# Altium footprint library my_lib.PcbLib: 68 footprints (part 3 of 5)
Each footprint in its own frame and in the unit in brackets; x right, y up, seen from the top. Pads: shape width x height; smd on the part's side, far side on the other; paste and mask are expansions set on the pad; w line width, h text height; cw(c..) or ccw(c..) is an arc to the next point about the centre after c.
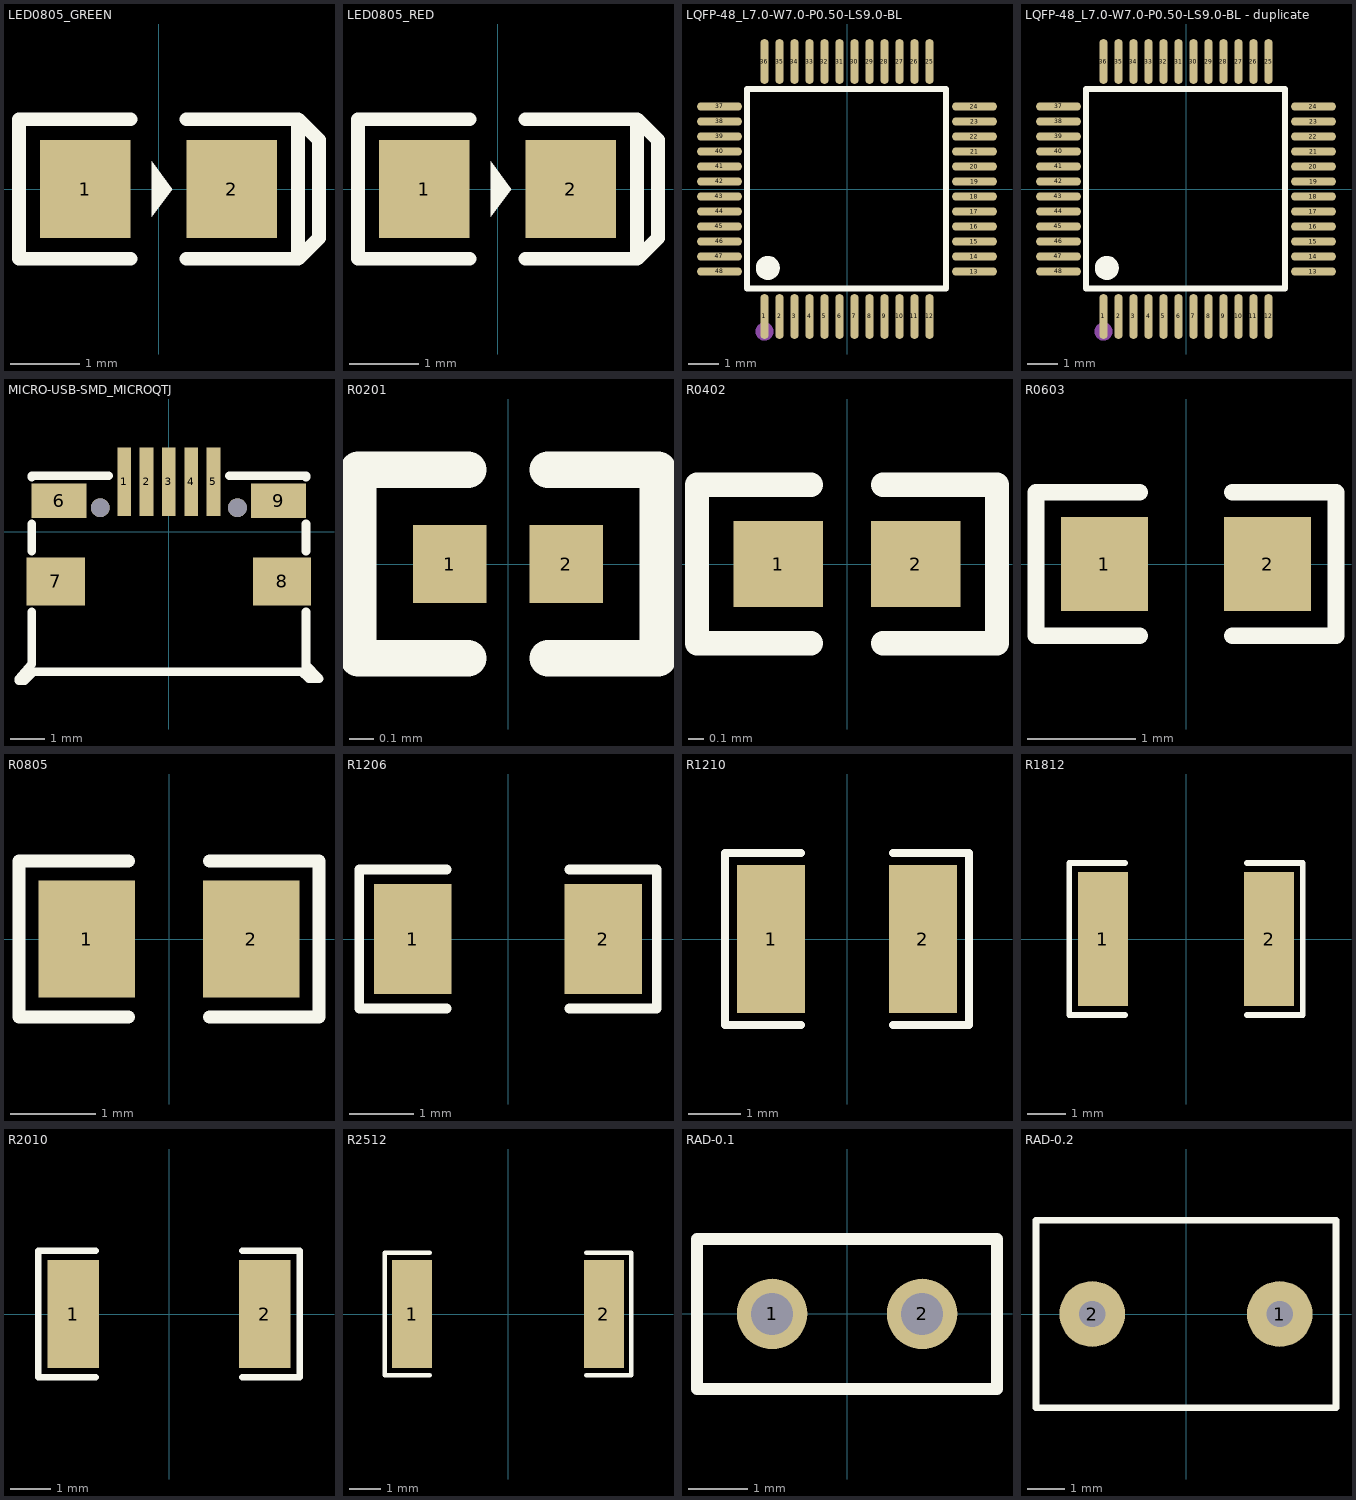
[diagram p2: the footprints below, top view; thin cyan lines are the x and y axes]

## LED0805_GREEN [mm]
pads (2):
  rect 1.3x1.4 smd: 1(-1.05,0) 2(1.05,0)
Top Overlay:
  region: -0.1,0.4 -0.1,-0.4 0.2,0
  lines w0.2: -0.4,-1 -2,-1 -2,1 -0.4,1 ; 0.4,-1 2,-1 ; 0.4,1 2,1 ; 2,-1 2.3,-0.7 2.3,0.7 2,1 ; 2,-1 2,1

## LED0805_RED [mm]
pads (2):
  rect 1.3x1.4 smd: 1(-1.05,0) 2(1.05,0)
Top Overlay:
  region: -0.1,0.4 -0.1,-0.4 0.2,0
  lines w0.2: -0.4,-1 -2,-1 -2,1 -0.4,1 ; 0.4,-1 2,-1 ; 0.4,1 2,1 ; 2,-1 2,1 ; 2,-1 2.3,-0.7 2.3,0.7 2,1

## LQFP-48_L7.0-W7.0-P0.50-LS9.0-BL [mm]
pads (48):
  oval 0.27x1.5 smd: 1(-2.75,-4.25) 2(-2.25,-4.25) 3(-1.75,-4.25) 4(-1.25,-4.25) 5(-0.75,-4.25) 6(-0.25,-4.25) 7(0.25,-4.25) 8(0.75,-4.25) 9(1.25,-4.25) 10(1.75,-4.25) 11(2.25,-4.25) 12(2.75,-4.25) 25(2.75,4.25) 26(2.25,4.25) 27(1.75,4.25) 28(1.25,4.25) 29(0.75,4.25) 30(0.25,4.25) 31(-0.25,4.25) 32(-0.75,4.25) 33(-1.25,4.25) 34(-1.75,4.25) 35(-2.25,4.25) 36(-2.75,4.25)
  oval 1.5x0.27 smd: 13(4.25,-2.75) 14(4.25,-2.25) 15(4.25,-1.75) 16(4.25,-1.25) 17(4.25,-0.75) 18(4.25,-0.25) 19(4.25,0.25) 20(4.25,0.75) 21(4.25,1.25) 22(4.25,1.75) 23(4.25,2.25) 24(4.25,2.75) 37(-4.25,2.75) 38(-4.25,2.25) 39(-4.25,1.75) 40(-4.25,1.25) 41(-4.25,0.75) 42(-4.25,0.25) 43(-4.25,-0.25) 44(-4.25,-0.75) 45(-4.25,-1.25) 46(-4.25,-1.75) 47(-4.25,-2.25) 48(-4.25,-2.75)
Top Overlay:
  lines w0.2: -2.896,3.34 3.302,3.34 3.302,-3.315 -3.327,-3.315 -3.327,3.34 -2.565,3.34
  lines w0.4: -2.641,-2.43 ccw(c-2.64,-2.63) -2.639,-2.43
Mechanical 15:
  circle w0.3: c-2.75,-4.75 r0.15

## LQFP-48_L7.0-W7.0-P0.50-LS9.0-BL - duplicate [mm]
pads (48):
  oval 0.27x1.5 smd: 1(-2.75,-4.25) 2(-2.25,-4.25) 3(-1.75,-4.25) 4(-1.25,-4.25) 5(-0.75,-4.25) 6(-0.25,-4.25) 7(0.25,-4.25) 8(0.75,-4.25) 9(1.25,-4.25) 10(1.75,-4.25) 11(2.25,-4.25) 12(2.75,-4.25) 25(2.75,4.25) 26(2.25,4.25) 27(1.75,4.25) 28(1.25,4.25) 29(0.75,4.25) 30(0.25,4.25) 31(-0.25,4.25) 32(-0.75,4.25) 33(-1.25,4.25) 34(-1.75,4.25) 35(-2.25,4.25) 36(-2.75,4.25)
  oval 1.5x0.27 smd: 13(4.25,-2.75) 14(4.25,-2.25) 15(4.25,-1.75) 16(4.25,-1.25) 17(4.25,-0.75) 18(4.25,-0.25) 19(4.25,0.25) 20(4.25,0.75) 21(4.25,1.25) 22(4.25,1.75) 23(4.25,2.25) 24(4.25,2.75) 37(-4.25,2.75) 38(-4.25,2.25) 39(-4.25,1.75) 40(-4.25,1.25) 41(-4.25,0.75) 42(-4.25,0.25) 43(-4.25,-0.25) 44(-4.25,-0.75) 45(-4.25,-1.25) 46(-4.25,-1.75) 47(-4.25,-2.25) 48(-4.25,-2.75)
Top Overlay:
  lines w0.2: -2.896,3.34 3.302,3.34 3.302,-3.315 -3.327,-3.315 -3.327,3.34 -2.565,3.34
  lines w0.4: -2.641,-2.43 ccw(c-2.64,-2.63) -2.639,-2.43
Mechanical 15:
  circle w0.3: c-2.75,-4.75 r0.15

## MICRO-USB-SMD_MICROQTJ [mm]
pads (11):
  rect 0.4x2 smd: 1(-1.3,1.452) 2(-0.65,1.452) 3(0,1.452) 4(0.65,1.452) 5(1.3,1.452)
  rect 1.6x1 smd: 6(-3.2,0.902) 9(3.2,0.902)
  rect 1.7x1.4 smd: 7(-3.3,-1.452) 8(3.3,-1.452)
  round 0.55 hole 0.55 unplated: ""(-2,0.698) ""(2,0.698)
Top Overlay:
  lines w0.254: -4.011,-3.869 -4.369,-4.288 -4.369,-4.339 -4.204,-4.339 -3.946,-4.081 3.878,-4.081 4.084,-4.288 4.376,-4.288 3.99,-3.869 ; -4,-3.869 -4,-2.398 -4,-2.334 ; -4,-0.571 -4,0.22 ; -4,1.583 -4,1.633 -1.758,1.633 ; 1.758,1.633 4,1.633 4,1.583 ; 4,-3.991 4,-2.398 4,-2.334 ; 4,-0.571 4,0.22

## R0201 [mm]
pads (2):
  rect 0.303x0.324 smd: 1(-0.242,0) 2(0.242,0)
Top Overlay:
  lines w0.152: -0.166,-0.391 -0.622,-0.391 -0.622,0.391 -0.166,0.391 ; 0.166,-0.391 0.622,-0.391 0.622,0.391 0.166,0.391
Top Paste:
  region: -0.081,-0.138 -0.081,0.138 -0.105,0.162 -0.369,0.162 -0.393,0.138 -0.393,-0.138 -0.369,-0.162 -0.105,-0.162
  region: 0.081,-0.138 0.081,0.138 0.105,0.162 0.369,0.162 0.393,0.138 0.393,-0.138 0.369,-0.162 0.105,-0.162

## R0402 [mm]
pads (2):
  rect 0.566x0.54 smd: 1(-0.433,0) 2(0.433,0)
Top Overlay:
  lines w0.152: -0.226,-0.499 -0.944,-0.499 -0.944,0.499 -0.226,0.499 ; 0.226,-0.499 0.944,-0.499 0.944,0.499 0.226,0.499
Top Paste:
  region: 0.135,-0.23 0.135,0.23 0.175,0.27 0.676,0.27 0.716,0.23 0.716,-0.23 0.676,-0.27 0.175,-0.27
  region: -0.135,-0.23 -0.135,0.23 -0.175,0.27 -0.676,0.27 -0.716,0.23 -0.716,-0.23 -0.676,-0.27 -0.175,-0.27

## R0603 [mm]
pads (2):
  rect 0.806x0.864 smd: 1(-0.753,0) 2(0.753,0)
Top Overlay:
  lines w0.152: -0.426,-0.661 -1.385,-0.661 -1.385,0.661 -0.426,0.661 ; 0.426,-0.661 1.385,-0.661 1.385,0.661 0.426,0.661
Top Paste:
  region: 1.195,0.45 0.395,0.45 0.345,0.4 0.345,0.172 0.715,0.172 0.715,-0.158 0.345,-0.158 0.345,-0.4 0.395,-0.45 1.195,-0.45 1.245,-0.4 1.245,0.4
  region: -0.355,0.4 -0.355,0.172 -0.735,0.172 -0.735,-0.158 -0.355,-0.158 -0.355,-0.4 -0.405,-0.45 -1.195,-0.45 -1.245,-0.4 -1.245,0.4 -1.195,0.45 -0.405,0.45

## R0805 [mm]
pads (2):
  rect 1.133x1.377 smd: 1(-0.966,0) 2(0.966,0)
Top Overlay:
  lines w0.152: -0.476,-0.917 -1.761,-0.917 -1.761,0.917 -0.476,0.917 ; 0.476,-0.917 1.761,-0.917 1.761,0.917 0.476,0.917
Top Paste:
  region: 0.45,-0.64 0.45,-0.22 0.895,-0.22 0.895,0.23 0.455,0.23 0.45,0.64 0.5,0.69 1.65,0.69 1.7,0.64 1.7,-0.64 1.65,-0.69 0.5,-0.69
  region: -1.7,-0.64 -1.7,0.64 -1.65,0.69 -0.5,0.69 -0.45,0.64 -0.445,0.23 -0.895,0.23 -0.895,-0.22 -0.455,-0.22 -0.45,-0.64 -0.5,-0.69 -1.65,-0.69

## R1206 [mm]
pads (2):
  rect 1.208x1.701 smd: 1(-1.479,0) 2(1.479,0)
Top Overlay:
  lines w0.152: -0.951,-1.079 -2.311,-1.079 -2.311,1.079 -0.951,1.079 ; 0.951,-1.079 2.311,-1.079 2.311,1.079 0.951,1.079
Top Paste:
  region: 0.875,-0.75 0.875,-0.389 0.975,-0.289 1.186,-0.289 1.286,-0.189 1.286,0.189 1.186,0.289 0.975,0.289 0.875,0.389 0.875,0.75 0.975,0.85 1.983,0.85 2.083,0.75 2.083,-0.75 1.983,-0.85 0.975,-0.85
  region: -0.875,-0.75 -0.875,-0.389 -0.975,-0.289 -1.186,-0.289 -1.286,-0.189 -1.286,0.189 -1.186,0.289 -0.975,0.289 -0.875,0.389 -0.875,0.75 -0.975,0.85 -1.983,0.85 -2.083,0.75 -2.083,-0.75 -1.983,-0.85 -0.975,-0.85

## R1210 [mm]
pads (2):
  rect 1.283x2.808 smd: 1(-1.441,0) 2(1.441,0)
Top Overlay:
  lines w0.152: -0.876,-1.633 -2.311,-1.633 -2.311,1.633 -0.876,1.633 ; 0.876,-1.633 2.311,-1.633 2.311,1.633 0.876,1.633
Top Paste:
  region: 0.8,-1.304 0.8,-0.577 0.9,-0.477 1.136,-0.477 1.236,-0.377 1.236,0.377 1.136,0.477 0.9,0.477 0.8,0.577 0.8,1.304 0.9,1.404 1.983,1.404 2.083,1.304 2.083,-1.304 1.983,-1.404 0.9,-1.404
  region: -0.8,-1.304 -0.8,-0.577 -0.9,-0.477 -1.136,-0.477 -1.236,-0.377 -1.236,0.377 -1.136,0.477 -0.9,0.477 -0.8,0.577 -0.8,1.304 -0.9,1.404 -1.983,1.404 -2.083,1.304 -2.083,-1.304 -1.983,-1.404 -0.9,-1.404

## R1812 [mm]
pads (2):
  rect 1.283x3.456 smd: 1(-2.141,0) 2(2.141,0)
Top Overlay:
  lines w0.152: -1.576,-1.957 -3.011,-1.957 -3.011,1.957 -1.576,1.957 ; 1.576,-1.957 3.011,-1.957 3.011,1.957 1.576,1.957
Top Paste:
  region: 1.5,-1.628 1.5,-0.688 1.6,-0.588 1.836,-0.588 1.936,-0.488 1.936,0.488 1.836,0.588 1.6,0.588 1.5,0.688 1.5,1.628 1.6,1.728 2.683,1.728 2.783,1.628 2.783,-1.628 2.683,-1.728 1.6,-1.728
  region: -1.5,-1.628 -1.5,-0.688 -1.6,-0.588 -1.836,-0.588 -1.936,-0.488 -1.936,0.488 -1.836,0.588 -1.6,0.588 -1.5,0.688 -1.5,1.628 -1.6,1.728 -2.683,1.728 -2.783,1.628 -2.783,-1.628 -2.683,-1.728 -1.6,-1.728

## R2010 [mm]
pads (2):
  rect 1.283x2.7 smd: 1(-2.391,0) 2(2.391,0)
Top Overlay:
  lines w0.152: -1.826,-1.579 -3.261,-1.579 -3.261,1.579 -1.826,1.579 ; 1.826,-1.579 3.261,-1.579 3.261,1.579 1.826,1.579
Top Paste:
  region: 1.75,-1.25 1.75,-0.559 1.85,-0.459 2.086,-0.459 2.186,-0.359 2.186,0.359 2.086,0.459 1.85,0.459 1.75,0.559 1.75,1.25 1.85,1.35 2.933,1.35 3.033,1.25 3.033,-1.25 2.933,-1.35 1.85,-1.35
  region: -1.75,-1.25 -1.75,-0.559 -1.85,-0.459 -2.086,-0.459 -2.186,-0.359 -2.186,0.359 -2.086,0.459 -1.85,0.459 -1.75,0.559 -1.75,1.25 -1.85,1.35 -2.933,1.35 -3.033,1.25 -3.033,-1.25 -2.933,-1.35 -1.85,-1.35

## R2512 [mm]
pads (2):
  rect 1.283x3.456 smd: 1(-3.066,0) 2(3.066,0)
Top Overlay:
  lines w0.152: -2.501,-1.957 -3.936,-1.957 -3.936,1.957 -2.501,1.957 ; 2.501,-1.957 3.936,-1.957 3.936,1.957 2.501,1.957
Top Paste:
  region: -2.425,-1.628 -2.425,-0.688 -2.525,-0.588 -2.761,-0.588 -2.861,-0.488 -2.861,0.488 -2.761,0.588 -2.525,0.588 -2.425,0.688 -2.425,1.628 -2.525,1.728 -3.608,1.728 -3.708,1.628 -3.708,-1.628 -3.608,-1.728 -2.525,-1.728
  region: 2.425,-1.628 2.425,-0.688 2.525,-0.588 2.761,-0.588 2.861,-0.488 2.861,0.488 2.761,0.588 2.525,0.588 2.425,0.688 2.425,1.628 2.525,1.728 3.608,1.728 3.708,1.628 3.708,-1.628 3.608,-1.728 2.525,-1.728

## RAD-0.1 [mil]
pads (2):
  round 47 hole 28: 1(-50,0) 2(50,0)
Top Overlay:
  lines w7.9: -100.1,-50.1 -100.1,49.9 99.9,49.9 99.9,-50.1 -100.1,-50.1

## RAD-0.2 [mil]
pads (2):
  round 70 hole 28: 1(100,0) 2(-100,0)
Top Overlay:
  lines w7: -160,-100 -160,100 160,100 160,0 160,-100 -160,-100